# Altium integrated library TPM2752.IntLib: 1 symbol
Pins are listed as number, name and electrical type; pins without a type are passive.

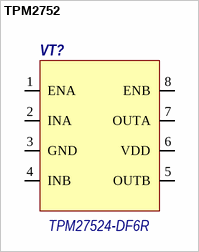
[diagram p0: symbol TPM2752]

## TPM2752
designator VT?, comment TPM27524-DF6R
Dual-channel low-side / gate drivers for MOSFET, IGBT, and GaN power switches; Case: DFN8-(3x3)
footprint DFN3X3-8 (DFN, 4-Leads, Body 3,00x3,00mm, Pitch 0,65mm, IPC Medium Density)
pins: 1 ENA, 2 INA, 3 GND, 4 INB, 5 OUTB, 6 VDD, 7 OUTA, 8 ENB